# Altium footprint library Resistors.PcbLib: 4 footprints
Each footprint in its own frame and in the unit in brackets; x right, y up, seen from the top. Pads: shape width x height; smd on the part's side, far side on the other; paste and mask are expansions set on the pad; w line width, h text height; cw(c..) or ccw(c..) is an arc to the next point about the centre after c.
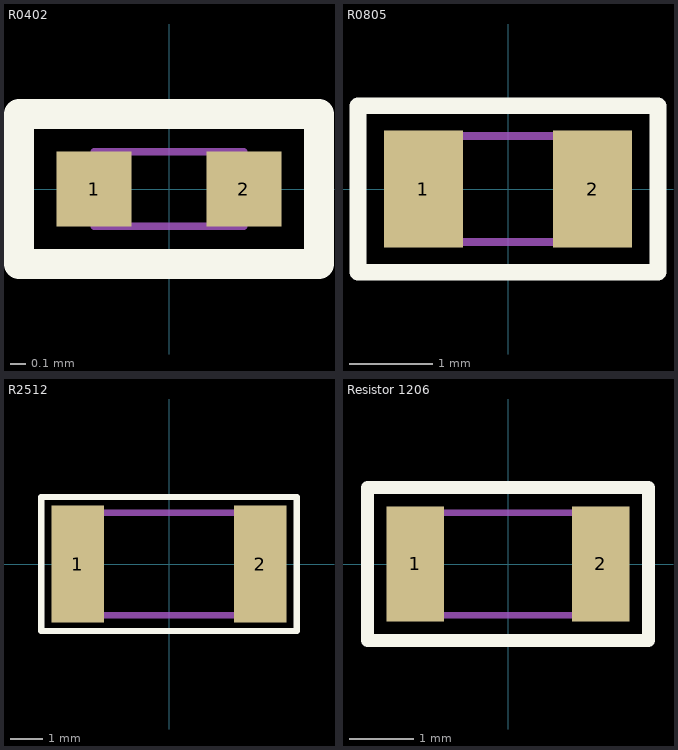
[diagram p0: the footprints below, top view; thin cyan lines are the x and y axes]

## R0402 [mm]
pads (2):
  rect 0.5x0.5 smd mask+0.076: 1(-0.5,0) 2(0.5,0)
Top Overlay:
  lines w0.2: -1,-0.5 1,-0.5 1,0.5 -1,0.5 -1,-0.5
Mechanical 1:
  rectangle: -0.5,-0.25 -0.3,0.25
  rectangle: 0.3,-0.25 0.5,0.25
  lines w0.05: -0.3,-0.25 -0.3,0.25 ; 0.3,-0.25 0.3,0.25 ; -0.5,-0.25 -0.5,0.25 0.5,0.25 0.5,-0.25 -0.5,-0.25
  text ".Comment" at -0.25,-0.05 h0.2
  text ".Designator" at -0.5,0.475 h0.8
3D body "Res 0402.step": height 0.35, standoff 0, extent -0.5,-0.25 0.5,0.25

## R0805 [mil]
pads (2):
  rect 37.4x55.1 smd: 1(-40,0) 2(40,0)
Top Overlay:
  lines w7.87: -70.87,-39.37 70.87,-39.37 70.87,39.37 -70.87,39.37 -70.87,-39.37
Mechanical 1:
  rectangle: -39.37,-25 -23.62,23.62
  rectangle: 23.62,-25 39.37,23.62
  lines w3.94: -40,-25 -40,25 40,25 40,-25 -40,-25
  text ".Designator" at -59.06,35.43 h31.5
  text ".Comment" at -22.64,-4.92 h19.68
3D body "User Library-SMD Resistors 0805.step": height 16.73, standoff -0.98, extent -39.36,-24.8 39.38,24.81

## R2512 [mm]
pads (2):
  rect 1.65x3.68 smd: 1(-2.86,0) 2(2.86,0)
Top Overlay:
  lines w0.2: -4,-2.1 4,-2.1 4,2.1 -4,2.1 -4,-2.1
Mechanical 1:
  region: 3.16,1.6 2.159,1.6 2.159,-1.524 3.16,-1.524
  rectangle: -3.159,-1.524 -2.159,1.6
  lines w0.2: -3.159,-1.6 3.16,-1.6 3.16,1.6 -3.159,1.6 -3.159,-1.6
  text "'.Designator'" at -2.159,2.032 h1
  text "'.Comment'" at -2.032,-0.381 h1
3D body "User Library-res2512_body.step": height 0.62, standoff 0, extent -3.159,-1.6 3.16,1.6

## Resistor 1206 [mm]
pads (2):
  rect 0.9x1.8 smd: 1(-1.45,0) 2(1.45,0)
Top Overlay:
  lines w0.2: -2.2,-1.2 2.2,-1.2 2.2,1.2 -2.2,1.2 -2.2,-1.2
Mechanical 1:
  lines w0.05: -1.1,-0.8 -1.1,0.8 ; 1.1,-0.8 1.1,0.8
  lines w0.1: -1.5,-0.8 -1.5,0.8 ; -1.425,-0.8 -1.425,0.8 ; -1.35,-0.8 -1.35,0.8 ; -1.275,-0.8 -1.275,0.8 ; -1.2,-0.8 -1.2,0.775 ; -1.125,-0.775 -1.125,0.8 ; 1.125,-0.775 1.125,0.8 ; 1.2,-0.8 1.2,0.775 ; 1.275,-0.8 1.275,0.8 ; 1.35,-0.8 1.35,0.8 ; 1.425,-0.8 1.425,0.8 ; 1.5,-0.8 1.5,0.8 ; 1.6,-0.8 1.6,0.8 ; 1.6,-0.8 1.6,0.8 ; 1.6,-0.8 -1.6,-0.8 -1.6,0.8 1.6,0.8
  text ".Designator" at -1.5,1.2 h0.8
  text ".Comment" at -1,-0.2 h0.8
3D body "Res 1206.step": height 0.55, standoff 0, extent -1.6,-0.8 1.6,0.8